# Altium schematic symbol library W3A41C102MAT2A.SchLib: 1 symbol
Pins are listed as number, name and electrical type; pins without a type are passive.

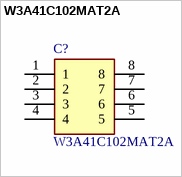
[diagram p0: symbol W3A41C102MAT2A]

## W3A41C102MAT2A
designator C?
Capacitor Arrays & Networks 100V 1000pF 20% 4cap X7R; Manufacturer_Name: AVX; Geometry.Height: 1.35mm; Mouser Part Number: 581-W3A41C102MAT2A; Mouser Price/Stock: https://www.mouser.co.uk/ProductDetail/AVX/W3A41C102MAT2A?qs=T8npLvK5duFciNXOOQ%252BBfQ%3D%3D; Manufacturer_Part_Number: W3A41C102MAT2A; Datasheet Link: https://datasheets.kyocera-avx.com/CapArray.pdf
footprint W3A41C102MAT2A
pins: 1, 2, 3, 4, 5, 6, 7, 8